# EAGLE library part ADUM4160 (library yantronix)
Full/Low Speed 5 kV USB Digital Isolator
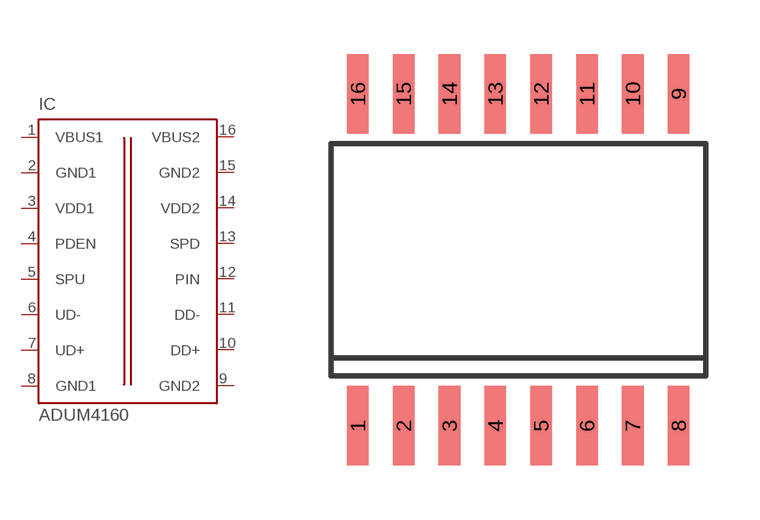
[diagram p14: symbol with the pads of SO-16W; footprint SO-16W]

Designator prefix IC

## ADUM4160  [SO-16W]
1  VBUS1  pwr
2  GND1  pwr
3  VDD1  pwr
4  PDEN  in
5  SPU  in
6  UD-
7  UD+
8  GND1  pwr
9  GND2  pwr
10  DD+
11  DD-
12  PIN  in
13  SPD  in
14  VDD2  pwr
15  GND2  pwr
16  VBUS2  pwr

## Footprint SO-16W (pad centres in mm)
16-Lead (Wide Body) Small Outline Package (R-16) Source: http://www.analog.com/UploadedFiles/Data_Sheets/409317160AD421_c.pdf
smd 0.6 x 2.2: 1 -4.445,-4.6; 2 -3.175,-4.6; 3 -1.905,-4.6; 4 -0.635,-4.6; 5 0.635,-4.6; 6 1.905,-4.6; 7 3.175,-4.6; 8 4.445,-4.6; 9 4.445,4.6; 10 3.175,4.6; 11 1.905,4.6; 12 0.635,4.6; 13 -0.635,4.6; 14 -1.905,4.6; 15 -3.175,4.6; 16 -4.445,4.6